# Altium schematic symbol library RPSLib_Protection.SchLib: 6 symbols
Pins are listed as number, name and electrical type; pins without a type are passive.

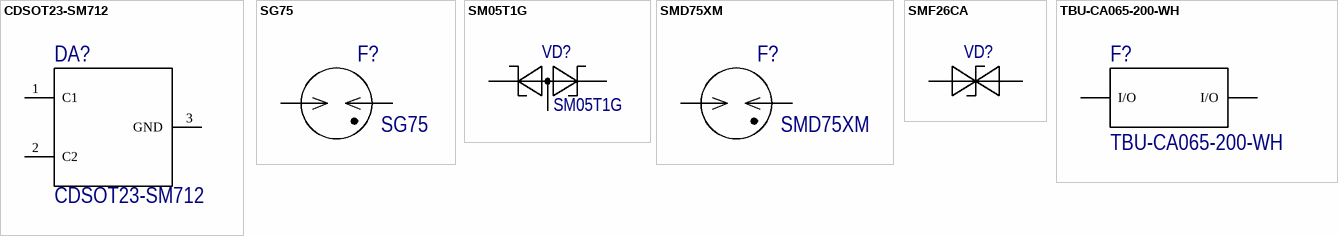
[diagram p0: symbols CDSOT23-SM712 to TBU-CA065-200-WH]

## CDSOT23-SM712
designator DA?
BOURNS - CDSOT23-SM712 - Transient Voltage Suppressor, TVS, CDSOT23 Series, Unidirectional, 12 V, SOT-23, 3, 13.3 V; Direction: Bidirectional; Clamping Voltage: 19V; Working Voltage: 12V; Max Surge Current: 30A; Polarity: Bidirectional,Unidirectional; Breakdown Voltage: 13.3V; Power Line Protection: No; Leakage Current: 20uA; Peak Pulse Current: 17A; Element Configuration: Dual; Capacitance: 75pF; Number of Elements: 2; Max Power Dissipation: 600W; Peak Pulse Power: 400W; Test Current: 1mA; Diode Type: ZENER; ESD Protection: Yes; Supplier 1: Digi-Key; Manufacturer: Bourns; Manufacturer Part Number: CDSOT23-SM712; RoHS: Yes; Category: TVS Diodes; Stock 1: 95283; Pricing 1: 1=1,57000, 10=1,28800, 100=1,00170, 500=0,84906, 1000=0,69165 (USD); Mount: Surface Mount; Case/Package: SOT-23; Number of Pins: 3; Contact Plating: Tin; Min Operating Temperature: -55°C; Max Operating Temperature: 150°C; Packaging: Tape and Reel; Package Quantity: 1; Termination: SMD/SMT; Reverse Standoff Voltage: 12V; Min Breakdown Voltage: 13.3V; Resistor Type: Zener; Reverse Breakdown Voltage: 13.3V; Number of Channels: 2; Number of Bidirectional Channels: 2; Power Dissipation: 400W; Max Reverse Leakage Current: 20uA; Max Breakdown Voltage: 13.3V; Series: -; Length: 3.04mm; Width: 0.055inch; Height: 1.11mm; Depth: 1.4mm; Radiation Hardening: No; REACH SVHC: No SVHC; RoHS Compliant: Yes; ComponentLink1URL: https://datasheet.ciiva.com/1281/1670933-1281331.pdf?src-supplier=Farnell; ComponentLink1Description: https://datasheet.ciiva.com/1281/1670933-1281331.pdf?src-supplier=Farnell; ComponentLink2URL: https://datasheet.ciiva.com/4510/cdsot23-sm712-25932-4510261.pdf?src-supplier=Mouser; ComponentLink2Description: https://datasheet.ciiva.com/4510/cdsot23-sm712-25932-4510261.pdf?src-supplier=Mouser; ComponentLink3URL: https://datasheet.ciiva.com/11193/cdsot23-sm712-11193846.pdf?src-supplier=Avnet; ComponentLink3Description: https://datasheet.ciiva.com/11193/cdsot23-sm712-11193846.pdf?src-supplier=Avnet; ComponentLink4URL: https://datasheet.ciiva.com/16582/cdsot23-sm712-16582189.pdf?src-supplier=Avnet+Europe; ComponentLink4Description: https://datasheet.ciiva.com/16582/cdsot23-sm712-16582189.pdf?src-supplier=Avnet+Europe; ComponentLink5URL: https://datasheet.ciiva.com/26828/getdatasheetpartid-418501-26828522.pdf?src-supplier=Verical; ComponentLink5Description: https://datasheet.ciiva.com/26828/getdatasheetpartid-418501-26828522.pdf?src-supplier=Verical; ComponentLink6URL: https://datasheet.ciiva.com/337/cdsot23-sm712-337451.pdf?src-supplier=Digi-Key; ComponentLink6Description: https://datasheet.ciiva.com/337/cdsot23-sm712-337451.pdf?src-supplier=Digi-Key; ComponentLink7URL: https://datasheet.ciiva.com/22696/1670933-22696779.pdf?src-supplier=Element14; ComponentLink7Description: https://datasheet.ciiva.com/22696/1670933-22696779.pdf?src-supplier=Element14; ComponentLink8URL: https://datasheet.ciiva.com/337/cdsot23-sm712-337452.pdf?src-supplier=Digi-Key; ComponentLink8Description: https://datasheet.ciiva.com/337/cdsot23-sm712-337452.pdf?src-supplier=Digi-Key; Supplier Part Number 1: CDSOT23-SM712CT-ND
footprint SOT95P232X100-3N (SOT23, 3-Leads, Body 2.92x2.32mm, Pitch 0.95mm, IPC Medium Density)
pins: 1 C1, 2 C2, 3 GND

## SG75
designator F?
GAS DISCHARGE TUBE, 75V, SMD; Manufacturer: Littelfuse; Number of Terminals/Pins: 2; Fail Short: No; Supplier 1: Digi-Key; Manufacturer Part Number: SG75; RoHS: Yes; Category: Uncategorized; Stock 1: 14966; Pricing 1: 1=1,37000, 5=1,33000, 10=1,24500, 50=1,03040, 100=0,85860, 250=0,83712, 500=0,70834, 1000=0,62249 (USD); Mount: Surface Mount; Case/Package: 1812; Number of Pins: 2; Case Code (Metric): 4532; Case Code (Imperial): 1812; Min Operating Temperature: -40°C; Max Operating Temperature: 90°C; Termination: SMD/SMT; Packaging: Tape and Reel; Package Quantity: 2000; Series: SG; Number of Poles: 2; Length: 4.5mm; Depth: 3.2mm; RoHS Compliant: Yes; Lead Free: Lead Free; REACH SVHC: Unknown; ComponentLink1URL: https://datasheet.ciiva.com/31422/1788333-31422811.pdf?src-supplier=Farnell; ComponentLink1Description: https://datasheet.ciiva.com/31422/1788333-31422811.pdf?src-supplier=Farnell; ComponentLink2URL: https://datasheet.ciiva.com/46433/1788333-46433030.pdf?src-supplier=Element14; ComponentLink2Description: https://datasheet.ciiva.com/46433/1788333-46433030.pdf?src-supplier=Element14; ComponentLink3URL: https://datasheet.ciiva.com/46433/1788333-46433031.pdf?src-supplier=Element14; ComponentLink3Description: https://datasheet.ciiva.com/46433/1788333-46433031.pdf?src-supplier=Element14; ComponentLink4URL: https://datasheet.ciiva.com/4498/littelfuse-gdt-sg-datasheet-pdf-319337-4498908.pdf?src-supplier=Mouser; ComponentLink4Description: https://datasheet.ciiva.com/4498/littelfuse-gdt-sg-datasheet-pdf-319337-4498908.pdf?src-supplier=Mouser; Supplier Part Number 1: F4125CT-ND
footprint GDT SG Littlefuse (Chip Gas discharge tube SG Littlefuse)
pins: 1, 2

## SM05T1G
designator VD?
SM05T1 Series 7.3 V 300 W Transient Voltage Suppressor Diode Array - SOT-23-3; Manufacturer: ON Semiconductor; Voltage Rating (DC): 5V; Supplier 1: Digikey; Manufacturer Part Number: SM05T1G; RoHS: Yes; Category: ESD and Circuit Protection ICs; Stock 1: 80742; Pricing 1: 1=0,34, 10=0,207, 100=0,1296, 500=0,09596, 1000=0,08508 (USD); Lead Free: 5697LeadFree; ComponentLink1URL: https://datasheet.ciiva.com/11193/sm12t1-d-11193492.pdf?src-supplier=Avnet; ComponentLink1Description: https://datasheet.ciiva.com/11193/sm12t1-d-11193492.pdf?src-supplier=Avnet; ComponentLink2URL: https://datasheet.ciiva.com/4508/sm12t1-d-196357-4508787.pdf?src-supplier=Mouser; ComponentLink2Description: https://datasheet.ciiva.com/4508/sm12t1-d-196357-4508787.pdf?src-supplier=Mouser; ComponentLink3URL: https://datasheet.ciiva.com/15143/getdatasheetpartid-69008-15143230.pdf?src-supplier=Verical; ComponentLink3Description: https://datasheet.ciiva.com/15143/getdatasheetpartid-69008-15143230.pdf?src-supplier=Verical; ComponentLink4URL: https://datasheet.ciiva.com/11193/sm12t1-d-11193495.pdf?src-supplier=Avnet; ComponentLink4Description: https://datasheet.ciiva.com/11193/sm12t1-d-11193495.pdf?src-supplier=Avnet; ComponentLink5URL: https://datasheet.ciiva.com/339/sm05t1-d-339928.pdf?src-supplier=Digikey; ComponentLink5Description: https://datasheet.ciiva.com/339/sm05t1-d-339928.pdf?src-supplier=Digikey; ComponentLink6URL: https://datasheet.ciiva.com/339/sm05t1-d-339929.pdf?src-supplier=Digikey; ComponentLink6Description: https://datasheet.ciiva.com/339/sm05t1-d-339929.pdf?src-supplier=Digikey; ComponentLink7URL: https://datasheet.ciiva.com/339/sm05t1-d-339930.pdf?src-supplier=Digikey; ComponentLink7Description: https://datasheet.ciiva.com/339/sm05t1-d-339930.pdf?src-supplier=Digikey; ComponentLink8URL: https://datasheet.ciiva.com/22661/1708353-22661174.pdf?src-supplier=Element14; ComponentLink8Description: https://datasheet.ciiva.com/22661/1708353-22661174.pdf?src-supplier=Element14; ComponentLink9URL: https://datasheet.ciiva.com/16199/sm12t1-d-16199269.pdf?src-supplier=Future+Electronics; ComponentLink9Description: https://datasheet.ciiva.com/16199/sm12t1-d-16199269.pdf?src-supplier=Future+Electronics; Supplier Part Number 1: SM05T1GOSCT-ND
footprint SOT95P232X100-3N (SOT23, 3-Leads, Body 2.92x2.32mm, Pitch 0.95mm, IPC Medium Density)
pins: 1 C1 (power), 2 C2 (power), 3 A (power)

## SMD75XM
designator F?
2kA 0.5pF 75V 2 1812 Gas Discharge Tube (GDT) ROHS; Manufacturer: SURGING; Number of Terminals/Pins: 2; Fail Short: No; Supplier 1: LCSC; Manufacturer Part Number: SMD75XM; RoHS: Yes; Category: Uncategorized; Stock 1: *; Pricing 1: *; Mount: Surface Mount; Case/Package: 1812; Number of Pins: 2; Case Code (Metric): 4532; Case Code (Imperial): 1812; Min Operating Temperature: -40°C; Max Operating Temperature: 90°C; Termination: SMD/SMT; Packaging: Tape and Reel; Package Quantity: 2000; Number of Poles: 2; Length: 4.5mm; Depth: 3.2mm; RoHS Compliant: Yes; Lead Free: Lead Free; REACH SVHC: Unknown; ComponentLink1URL: https://datasheet.lcsc.com/lcsc/2005131935_SURGING-SMD75XM_C527151.pdf; ComponentLink1Description: Datasheet; ComponentLink4URL: https://lcsc.com/product-detail/Gas-Discharge-Tube-GDT_SURGING-SMD75XM_C527151.html; ComponentLink4Description: LCSC link; Supplier Part Number 1: C527151
footprint GDT SMD75 (Chip Gas discharge tube SMD75 SURGING)
pins: 1, 2

## SMF26CA
designator VD?  (value not drawn)
TVS DIODE 26VWM 42.1VC SOD123F; Manufacturer: Littelfuse; Supplier 1: Digi-Key; Manufacturer Part Number: SMF26CA; RoHS: Yes; Stock 1: 2767; Pricing 1: 1=0,43000, 10=0,34700, 100=0,23600, 500=0,17702, 1000=0,13277 (USD); Supplier Part Number 1: 18-SMF26CACT-ND
footprint SODFL365X110-2N (SODFL, 2-Leads, Body 1,75x3,65mm, IPC Medium Density)
pins: 1, 2

## TBU-CA065-200-WH
designator F?
BOURNS - TBU-CA065-200-WH - Surge Protector, TBU-CA Series, High Speed Surge Protector IC, 650 V; Voltage Rating: 300V; Current Rating: 200mA; Direction: Bidirectional; Clamping Voltage: 650V; Number of Circuits: 2; Response Time: 1us; ESD Protection: Yes; Reverse Standoff Voltage: 20V; Element Configuration: Single; Peak Pulse Current: 400mA; Supplier 1: Digi-Key; Manufacturer: Bourns; Manufacturer Part Number: TBU-CA065-200-WH; RoHS: Yes; Category: ESD and Circuit Protection ICs; Pricing 1: 1=1,72000, 10=1,42800, 100=1,13680, 500=0,96196, 1000=0,81620 (USD); Mount: Surface Mount; Case/Package: DFN; Number of Pins: 12; Weight: 0.076oz; Min Operating Temperature: -40°C; Max Operating Temperature: 125°C; Package Quantity: 3000; Packaging: Tape and Reel; Working Voltage: 300V; Termination: Solder; Voltage Rating (DC): 650V; Series: TBU®; Length: 6.5mm; Width: 4mm; Height: 0.85mm; REACH SVHC: No SVHC; RoHS Compliant: Yes; ComponentLink1URL: https://datasheet.ciiva.com/329/tbu-ca-329555.pdf?src-supplier=Digi-Key; ComponentLink1Description: https://datasheet.ciiva.com/329/tbu-ca-329555.pdf?src-supplier=Digi-Key; ComponentLink2URL: https://datasheet.ciiva.com/329/tbu-ca-329556.pdf?src-supplier=Digi-Key; ComponentLink2Description: https://datasheet.ciiva.com/329/tbu-ca-329556.pdf?src-supplier=Digi-Key; ComponentLink3URL: https://datasheet.ciiva.com/329/tbu-ca-329554.pdf?src-supplier=Digi-Key; ComponentLink3Description: https://datasheet.ciiva.com/329/tbu-ca-329554.pdf?src-supplier=Digi-Key; ComponentLink4URL: https://datasheet.ciiva.com/18417/70155246-18417707.pdf?src-supplier=Allied+Electronics; ComponentLink4Description: https://datasheet.ciiva.com/18417/70155246-18417707.pdf?src-supplier=Allied+Electronics; ComponentLink5URL: https://datasheet.ciiva.com/1289/1704407-1289822.pdf?src-supplier=Element14; ComponentLink5Description: https://datasheet.ciiva.com/1289/1704407-1289822.pdf?src-supplier=Element14; Supplier Part Number 1: TBU-CA065-200-WHCT-ND
footprint TBU-CA
pins: 1 I/O, 2 I/O